# EAGLE library part PIC18F9* (library EW_IC_Processors)
1-Mbit Flash Microcontrollers with Ethernet 100-Pin High-Performance Source: http://ww1.microchip.com/downloads/en/DeviceDoc/39762c.pdf
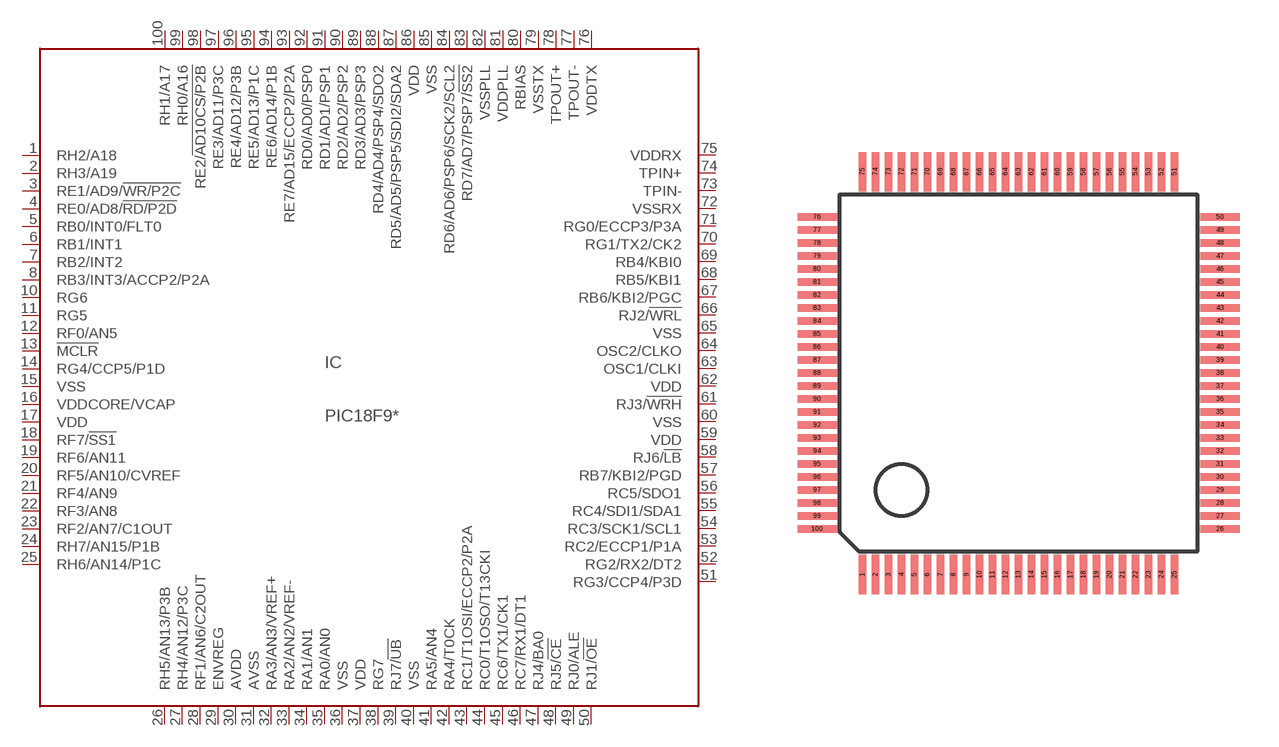
[diagram p80: symbol with the pads of TQFP100-14X14; footprint TQFP100-14X14]

Designator prefix IC

## PIC18F96J60T (MPN: PIC18F96J60T-I/PT; OC_FARNELL: 1332292; OC_NEWARK: 54M5051), PIC18F96J65T (MPN: PIC18F96J65T-I/PT; OC_FARNELL: 1564573; OC_NEWARK: 74K8624), PIC18F97J60T (MPN: PIC18F97J60T-I/PT; OC_FARNELL: 1439573; OC_NEWARK: 59M1140)  [TQFP100-14X14]
1  RH2/A18
2  RH3/A19
3  RE1/AD9/!WR/P2C
4  RE0/AD8/!RD/P2D
5  RB0/INT0/FLT0
6  RB1/INT1
7  RB2/INT2
8  RB3/INT3/ACCP2/P2A
10  RG6
11  RG5
12  RF0/AN5
13  !MCLR  in
14  RG4/CCP5/P1D
15  VSS  pwr
16  VDDCORE/VCAP  pwr
17  VDD  pwr
18  RF7/!SS1
19  RF6/AN11
20  RF5/AN10/CVREF
21  RF4/AN9
22  RF3/AN8
23  RF2/AN7/C1OUT
24  RH7/AN15/P1B
25  RH6/AN14/P1C
26  RH5/AN13/P3B
27  RH4/AN12/P3C
28  RF1/AN6/C2OUT
29  ENVREG  in
30  AVDD  pwr
31  AVSS  pwr
32  RA3/AN3/VREF+
33  RA2/AN2/VREF-
34  RA1/AN1
35  RA0/AN0
36  VSS  pwr
37  VDD  pwr
38  RG7
39  RJ7/!UB
40  VSS  pwr
41  RA5/AN4
42  RA4/T0CK
43  RC1/T1OSI/ECCP2/P2A
44  RC0/T1OSO/T13CKI
45  RC6/TX1/CK1
46  RC7/RX1/DT1
47  RJ4/BA0
48  RJ5/!CE
49  RJ0/ALE
50  RJ1/!OE
51  RG3/CCP4/P3D
52  RG2/RX2/DT2
53  RC2/ECCP1/P1A
54  RC3/SCK1/SCL1
55  RC4/SDI1/SDA1
56  RC5/SDO1
57  RB7/KBI2/PGD
58  RJ6/!LB
59  VDD  pwr
60  VSS  pwr
61  RJ3/!WRH
62  VDD  pwr
63  OSC1/CLKI  in
64  OSC2/CLKO  out
65  VSS  pwr
66  RJ2/!WRL
67  RB6/KBI2/PGC
68  RB5/KBI1
69  RB4/KBI0
70  RG1/TX2/CK2
71  RG0/ECCP3/P3A
72  VSSRX  pwr
73  TPIN-  in
74  TPIN+  in
75  VDDRX  pwr
76  VDDTX  pwr
77  TPOUT-  out
78  TPOUT+  out
79  VSSTX  pwr
80  RBIAS
81  VDDPLL  pwr
82  VSSPLL  pwr
83  RD7/AD7/PSP7/!SS2
84  RD6/AD6/PSP6/SCK2/SCL2
85  VSS  pwr
86  VDD  pwr
87  RD5/AD5/PSP5/SDI2/SDA2
88  RD4/AD4/PSP4/SDO2
89  RD3/AD3/PSP3
90  RD2/AD2/PSP2
91  RD1/AD1/PSP1
92  RD0/AD0/PSP0
93  RE7/AD15/ECCP2/P2A
94  RE6/AD14/P1B
95  RE5/AD13/P1C
96  RE4/AD12/P3B
97  RE3/AD11/P3C
98  RE2/!AD10CS/P2B
99  RH0/A16
100  RH1/A17

## Footprint TQFP100-14X14 (pad centres in mm)
Thin Quad Flat Pack 14x14 mm
smd 0.27 x 1.5: 1 -6,-7.75; 2 -5.5,-7.75; 3 -5,-7.75; 4 -4.5,-7.75; 5 -4,-7.75; 6 -3.5,-7.75; 7 -3,-7.75; 8 -2.5,-7.75; 9 -2,-7.75; 10 -1.5,-7.75; 11 -1,-7.75; 12 -0.5,-7.75; 13 0,-7.75; 14 0.5,-7.75; 15 1,-7.75; 16 1.5,-7.75; 17 2,-7.75; 18 2.5,-7.75; 19 3,-7.75; 20 3.5,-7.75; 21 4,-7.75; 22 4.5,-7.75; 23 5,-7.75; 24 5.5,-7.75; 25 6,-7.75; 51 6,7.75; 52 5.5,7.75; 53 5,7.75; 54 4.5,7.75; 55 4,7.75; 56 3.5,7.75; 57 3,7.75; 58 2.5,7.75; 59 2,7.75; 60 1.5,7.75; 61 1,7.75; 62 0.5,7.75; 63 0,7.75; 64 -0.5,7.75; 65 -1,7.75; 66 -1.5,7.75; 67 -2,7.75; 68 -2.5,7.75; 69 -3,7.75; 70 -3.5,7.75; 71 -4,7.75; 72 -4.5,7.75; 73 -5,7.75; 74 -5.5,7.75; 75 -6,7.75
smd 1.5 x 0.27: 26 7.75,-6; 27 7.75,-5.5; 28 7.75,-5; 29 7.75,-4.5; 30 7.75,-4; 31 7.75,-3.5; 32 7.75,-3; 33 7.75,-2.5; 34 7.75,-2; 35 7.75,-1.5; 36 7.75,-1; 37 7.75,-0.5; 38 7.75,0; 39 7.75,0.5; 40 7.75,1; 41 7.75,1.5; 42 7.75,2; 43 7.75,2.5; 44 7.75,3; 45 7.75,3.5; 46 7.75,4; 47 7.75,4.5; 48 7.75,5; 49 7.75,5.5; 50 7.75,6; 76 -7.75,6; 77 -7.75,5.5; 78 -7.75,5; 79 -7.75,4.5; 80 -7.75,4; 81 -7.75,3.5; 82 -7.75,3; 83 -7.75,2.5; 84 -7.75,2; 85 -7.75,1.5; 86 -7.75,1; 87 -7.75,0.5; 88 -7.75,0; 89 -7.75,-0.5; 90 -7.75,-1; 91 -7.75,-1.5; 92 -7.75,-2; 93 -7.75,-2.5; 94 -7.75,-3; 95 -7.75,-3.5; 96 -7.75,-4; 97 -7.75,-4.5; 98 -7.75,-5; 99 -7.75,-5.5; 100 -7.75,-6